# Altium schematic symbol library DW01A-G.SchLib: 1 symbol
Pins are listed as number, name and electrical type; pins without a type are passive.

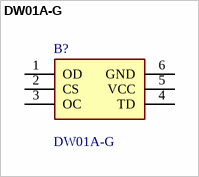
[diagram p0: symbol DW01A-G]

## DW01A-G
designator B?
One Cell Lithium-ion/Polymer Battery Protection IC; Manufacturer_Name: Fortune Semiconductor Corporation; Geometry.Height: 1.35mm; Manufacturer_Part_Number: DW01A-G; Mouser Part Number: *; Mouser Price/Stock: *; Arrow Part Number: *; Arrow Price/Stock: *; Datasheet Link: http://acoptex.com/uploads/DW01A.pdf
footprint SOT95P280X135-6N
pins: 1 OD, 2 CS, 3 OC, 4 TD, 5 VCC, 6 GND